# Altium footprint library Mcu.PcbLib: 4 footprints
Each footprint in its own frame and in the unit in brackets; x right, y up, seen from the top. Pads: shape width x height; smd on the part's side, far side on the other; paste and mask are expansions set on the pad; w line width, h text height; cw(c..) or ccw(c..) is an arc to the next point about the centre after c.
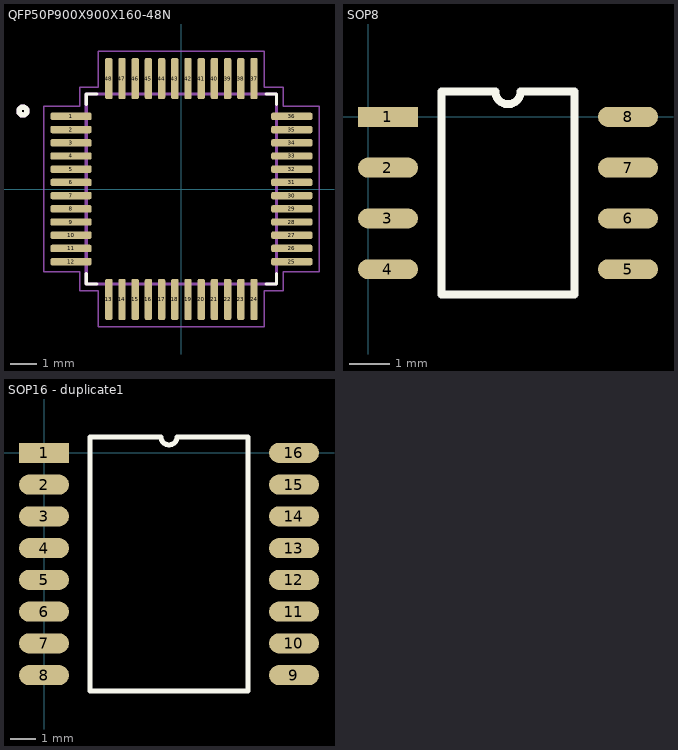
[diagram p0: the footprints below, top view; thin cyan lines are the x and y axes]

## PCBComponent_1 [mm]

## QFP50P900X900X160-48N [mm]
pads (48):
  rrect50% 1.56x0.28 smd: 1(-4.18,2.75) 2(-4.18,2.25) 3(-4.18,1.75) 4(-4.18,1.25) 5(-4.18,0.75) 6(-4.18,0.25) 7(-4.18,-0.25) 8(-4.18,-0.75) 9(-4.18,-1.25) 10(-4.18,-1.75) 11(-4.18,-2.25) 12(-4.18,-2.75) 25(4.18,-2.75) 26(4.18,-2.25) 27(4.18,-1.75) 28(4.18,-1.25) 29(4.18,-0.75) 30(4.18,-0.25) 31(4.18,0.25) 32(4.18,0.75) 33(4.18,1.25) 34(4.18,1.75) 35(4.18,2.25) 36(4.18,2.75)
  rrect50% 0.28x1.56 smd: 13(-2.75,-4.18) 14(-2.25,-4.18) 15(-1.75,-4.18) 16(-1.25,-4.18) 17(-0.75,-4.18) 18(-0.25,-4.18) 19(0.25,-4.18) 20(0.75,-4.18) 21(1.25,-4.18) 22(1.75,-4.18) 23(2.25,-4.18) 24(2.75,-4.18) 37(2.75,4.18) 38(2.25,4.18) 39(1.75,4.18) 40(1.25,4.18) 41(0.75,4.18) 42(0.25,4.18) 43(-0.25,4.18) 44(-0.75,4.18) 45(-1.25,4.18) 46(-1.75,4.18) 47(-2.25,4.18) 48(-2.75,4.18)
Top Overlay:
  circle w0.2: c-6,2.95 r0.15
  lines w0.127: -3.6,-3.21 -3.6,-3.6 -3.21,-3.6 ; -3.6,3.21 -3.6,3.6 -3.21,3.6 ; 3.21,-3.6 3.6,-3.6 3.6,-3.21 ; 3.21,3.6 3.6,3.6 3.6,3.21
Mechanical 13:
  circle w0.2: c-6,2.95 r0.15
  lines w0.127: -3.6,-3.6 -3.6,3.6 3.6,3.6 3.6,-3.6 -3.6,-3.6
Mechanical 15:
  lines w0.05: -5.21,-3.14 -5.21,3.14 -3.85,3.14 -3.85,3.85 -3.14,3.85 -3.14,5.21 3.14,5.21 3.14,3.85 3.85,3.85 3.85,3.14 5.21,3.14 5.21,-3.14 3.85,-3.14 3.85,-3.85 3.14,-3.85 3.14,-5.21 -3.14,-5.21 -3.14,-3.85 -3.85,-3.85 -3.85,-3.14 -5.21,-3.14
3D body "step_temp.STEP": height 1.6, standoff 0, extent -4.5,-4.5 4.5,4.5

## SOP8 [mm]
pads (8):
  rect 1.5x0.5 smd: 1(0.5,0)
  oval 1.5x0.5 smd: 2(0.5,-1.27) 3(0.5,-2.54) 4(0.5,-3.81) 5(6.5,-3.81) 6(6.5,-2.54) 7(6.5,-1.27) 8(6.5,0)
Top Overlay:
  lines w0.2: 1.835,-4.445 5.165,-4.445 5.165,0.635 3.818,0.635 cw(c3.5,0.635) 3.183,0.635 1.835,0.635 1.835,-4.445
3D body "CAT24C32WI-GT3--3DModel-STEP-510211.STEP": height 1.75, standoff 0, extent 0.429,-4.355 6.429,0.545

## SOP16 - duplicate1 [mm]
pads (16):
  rect 2x0.8 smd: 1(0,0)
  oval 2x0.8 smd: 2(0,-1.27) 3(0,-2.54) 4(0,-3.81) 5(0,-5.08) 6(0,-6.35) 7(0,-7.62) 8(0,-8.89) 9(10,-8.89) 10(10,-7.62) 11(10,-6.35) 12(10,-5.08) 13(10,-3.81) 14(10,-2.54) 15(10,-1.27) 16(10,0)
Top Overlay:
  lines w0.2: 1.835,-9.525 8.165,-9.525 8.165,0.635 5.318,0.635 cw(c5,0.635) 4.683,0.635 1.835,0.635 1.835,-9.525
3D body "DS3231M+TRL.STEP": height 2.65, standoff 0, extent -0.336,-9.722 9.988,0.578